# EAGLE library part PCIE-MXM3.0-* (library PCI Express)
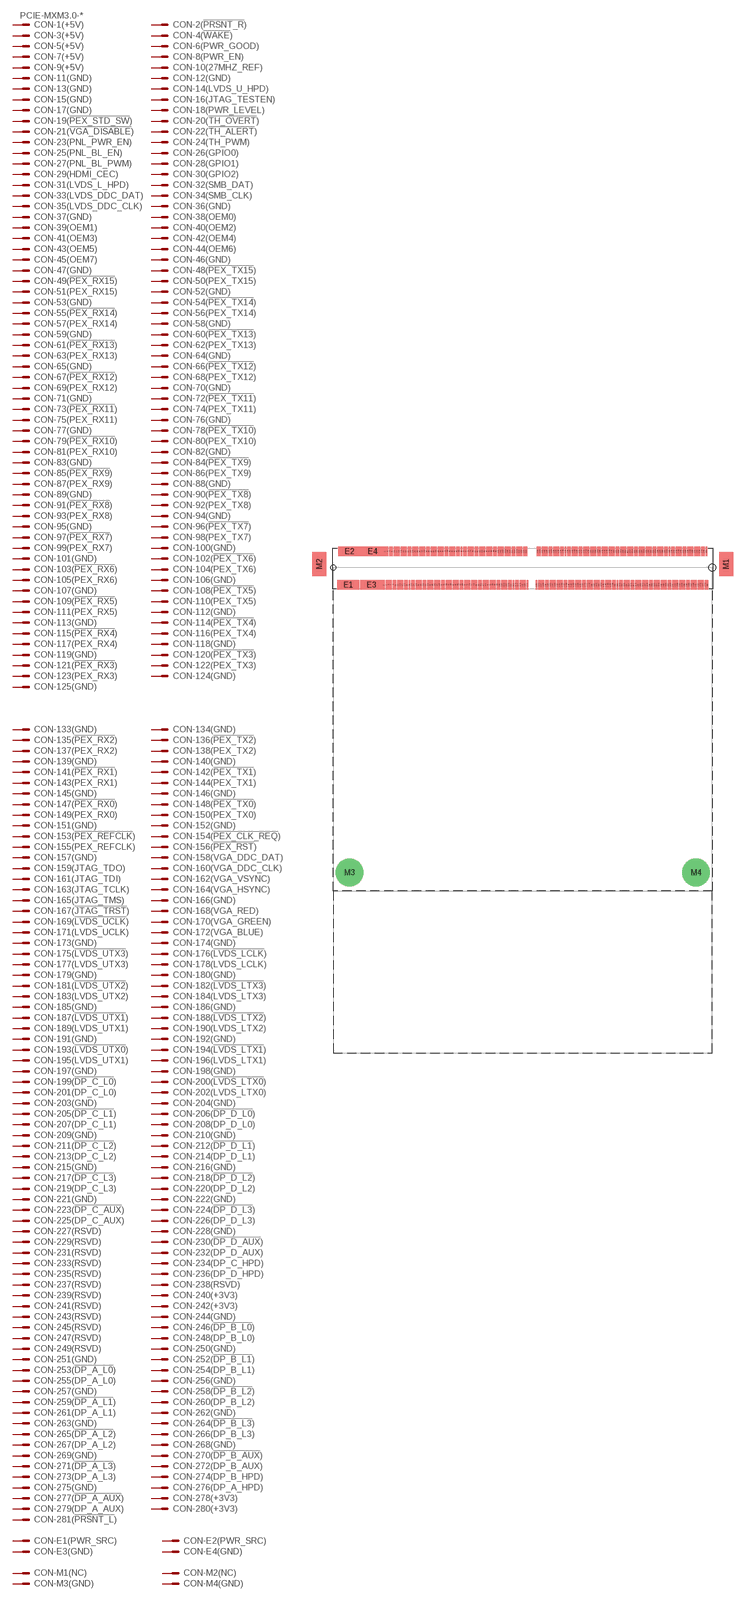
[diagram p6: symbol with the pads of PCIE-MXM3.0-SKT; footprint PCIE-MXM3.0-SKT]

Designator prefix CON; gates -1(+5V)=KV -2(!PRSNT_R!)=K -3(+5V)=K -4(!WAKE!)=K -5(+5V)=K -6(PWR_GOOD)=K -7(+5V)=K -8(PWR_EN)=K -9(+5V)=K -10(27MHZ_REF)=K -11(GND)=K -12(GND)=K -13(GND)=K -14(LVDS_U_HPD)=K -15(GND)=K -16(JTAG_TESTEN)=K -17(GND)=K -18(PWR_LEVEL)=K -19(!PEX_STD_SW!)=K -20(!TH_OVERT!)=K -21(!VGA_DISABLE!)=K -22(!TH_ALERT!)=K -23(PNL_PWR_EN)=K -24(TH_PWM)=K -25(PNL_BL_EN)=K -26(GPIO0)=K -27(PNL_BL_PWM)=K -28(GPIO1)=K -29(HDMI_CEC)=K -30(GPIO2)=K -31(LVDS_L_HPD)=K -32(SMB_DAT)=K -33(LVDS_DDC_DAT)=K -34(SMB_CLK)=K -35(LVDS_DDC_CLK)=K -36(GND)=K -37(GND)=K -38(OEM0)=K -39(OEM1)=K -40(OEM2)=K -41(OEM3)=K -42(OEM4)=K -43(OEM5)=K -44(OEM6)=K -45(OEM7)=K -46(GND)=K -47(GND)=K -48(!PEX_TX15!)=K -49(!PEX_RX15!)=K -50(PEX_TX15)=K -51(PEX_RX15)=K -52(GND)=K -53(GND)=K -54(!PEX_TX14!)=K -55(!PEX_RX14!)=K -56(PEX_TX14)=K -57(PEX_RX14)=K -58(GND)=K -59(GND)=K -60(!PEX_TX13!)=K -61(!PEX_RX13!)=K -62(PEX_TX13)=K -63(PEX_RX13)=K -64(GND)=K -65(GND)=K -66(!PEX_TX12!)=K -67(!PEX_RX12!)=K -68(PEX_TX12)=K -69(PEX_RX12)=K -70(GND)=K -71(GND)=K -72(!PEX_TX11!)=K -73(!PEX_RX11!)=K -74(PEX_TX11)=K -75(PEX_RX11)=K -76(GND)=K -77(GND)=K -78(!PEX_TX10!)=K -79(!PEX_RX10!)=K -80(PEX_TX10)=K -81(PEX_RX10)=K -82(GND)=K -83(GND)=K -84(!PEX_TX9!)=K -85(!PEX_RX9!)=K -86(PEX_TX9)=K -87(PEX_RX9)=K -88(GND)=K -89(GND)=K -90(!PEX_TX8!)=K -91(!PEX_RX8!)=K -92(PEX_TX8)=K -93(PEX_RX8)=K -94(GND)=K -95(GND)=K -96(!PEX_TX7!)=K -97(!PEX_RX7!)=K -98(PEX_TX7)=K -99(PEX_RX7)=K -100(GND)=K -101(GND)=K -102(!PEX_TX6!)=K -103(!PEX_RX6!)=K -104(PEX_TX6)=K -105(PEX_RX6)=K -106(GND)=K -107(GND)=K -108(!PEX_TX5!)=K -109(!PEX_RX5!)=K -110(PEX_TX5)=K -111(PEX_RX5)=K -112(GND)=K -113(GND)=K -114(!PEX_TX4!)=K -115(!PEX_RX4!)=K -116(PEX_TX4)=K -117(PEX_RX4)=K -118(GND)=K -119(GND)=K -120(!PEX_TX3!)=K -121(!PEX_RX3!)=K -122(PEX_TX3)=K -123(PEX_RX3)=K -124(GND)=K -125(GND)=K -133(GND)=K -134(GND)=K -135(!PEX_RX2!)=K -136(!PEX_TX2!)=K -137(PEX_RX2)=K -138(PEX_TX2)=K -139(GND)=K -140(GND)=K -141(!PEX_RX1!)=K -142(!PEX_TX1!)=K -143(PEX_RX1)=K -144(PEX_TX1)=K -145(GND)=K -146(GND)=K -147(!PEX_RX0!)=K -148(!PEX_TX0!)=K -149(PEX_RX0)=K -150(PEX_TX0)=K -151(GND)=K -152(GND)=K -153(!PEX_REFCLK!)=K -154(!PEX_CLK_REQ!)=K -155(PEX_REFCLK)=K -156(!PEX_RST!)=K -157(GND)=K -158(VGA_DDC_DAT)=K -159(JTAG_TDO)=K -160(VGA_DDC_CLK)=K -161(JTAG_TDI)=K -162(VGA_VSYNC)=K -163(JTAG_TCLK)=K -164(VGA_HSYNC)=K -165(JTAG_TMS)=K -166(GND)=K -167(!JTAG_TRST!)=K -168(VGA_RED)=K -169(!LVDS_UCLK!)=K -170(VGA_GREEN)=K -171(LVDS_UCLK)=K -172(VGA_BLUE)=K -173(GND)=K -174(GND)=K -175(!LVDS_UTX3!)=K -176(!LVDS_LCLK!)=K -177(LVDS_UTX3)=K -178(LVDS_LCLK)=K -179(GND)=K -180(GND)=K -181(!LVDS_UTX2!)=K -182(!LVDS_LTX3!)=K -183(LVDS_UTX2)=K -184(LVDS_LTX3)=K -185(GND)=K -186(GND)=K -187(!LVDS_UTX1!)=K -188(!LVDS_LTX2!)=K -189(LVDS_UTX1)=K -190(LVDS_LTX2)=K -191(GND)=K -192(GND)=K -193(!LVDS_UTX0!)=K -194(!LVDS_LTX1!)=K -195(LVDS_UTX1)=K -196(LVDS_LTX1)=K -197(GND)=K -198(GND)=K -199(!DP_C_L0!)=K -200(!LVDS_LTX0!)=K -201(DP_C_L0)=K -202(LVDS_LTX0)=K -203(GND)=K -204(GND)=K -205(!DP_C_L1!)=K -206(!DP_D_L0!)=K -207(DP_C_L1)=K -208(DP_D_L0)=K -209(GND)=K -210(GND)=K -211(!DP_C_L2!)=K -212(!DP_D_L1!)=K -213(DP_C_L2)=K -214(DP_D_L1)=K -215(GND)=K -216(GND)=K -217(!DP_C_L3!)=K -218(!DP_D_L2!)=K -219(DP_C_L3)=K -220(DP_D_L2)=K -221(GND)=K -222(GND)=K -223(!DP_C_AUX!)=K -224(!DP_D_L3!)=K -225(DP_C_AUX)=K -226(DP_D_L3)=K -227(RSVD)=K -228(GND)=K -229(RSVD)=K -230(!DP_D_AUX!)=K -231(RSVD)=K -232(DP_D_AUX)=K -233(RSVD)=K -234(DP_C_HPD)=K -235(RSVD)=K -236(DP_D_HPD)=K -237(RSVD)=K -238(RSVD)=K -239(RSVD)=K -240(+3V3)=K -241(RSVD)=K -242(+3V3)=K -243(RSVD)=K -244(GND)=K -245(RSVD)=K -246(!DP_B_L0!)=K -247(RSVD)=K -248(DP_B_L0)=K -249(RSVD)=K -250(GND)=K -251(GND)=K -252(!DP_B_L1!)=K -253(!DP_A_L0!)=K -254(DP_B_L1)=K -255(DP_A_L0)=K -256(GND)=K -257(GND)=K -258(!DP_B_L2!)=K -259(!DP_A_L1!)=K -260(DP_B_L2)=K -261(DP_A_L1)=K -262(GND)=K -263(GND)=K -264(!DP_B_L3!)=K -265(!DP_A_L2!)=K -266(DP_B_L3)=K -267(DP_A_L2)=K -268(GND)=K -269(GND)=K -270(!DP_B_AUX!)=K -271(!DP_A_L3!)=K -272(DP_B_AUX)=K -273(DP_A_L3)=K -274(DP_B_HPD)=K -275(GND)=K -276(DP_A_HPD)=K -277(!DP_A_AUX!)=K -278(+3V3)=K -279(DP_A_AUX)=K -280(+3V3)=K -281(!PRSNT_L!)=K -E1(PWR_SRC)=K -E2(PWR_SRC)=K -E3(GND)=K -E4(GND)=K -M1(NC)=K -M3(GND)=K -M4(GND)=K -M2(NC)=K

## PCIE-MXM3.0-SKT  [PCIE-MXM3.0-SKT]
1  -1(+5V):S  pas
2  -2(!PRSNT_R!):S  pas
3  -3(+5V):S  pas
4  -4(!WAKE!):S  pas
5  -5(+5V):S  pas
6  -6(PWR_GOOD):S  pas
7  -7(+5V):S  pas
8  -8(PWR_EN):S  pas
9  -9(+5V):S  pas
10  -10(27MHZ_REF):S  pas
11  -11(GND):S  pas
12  -12(GND):S  pas
13  -13(GND):S  pas
14  -14(LVDS_U_HPD):S  pas
15  -15(GND):S  pas
16  -16(JTAG_TESTEN):S  pas
17  -17(GND):S  pas
18  -18(PWR_LEVEL):S  pas
19  -19(!PEX_STD_SW!):S  pas
20  -20(!TH_OVERT!):S  pas
21  -21(!VGA_DISABLE!):S  pas
22  -22(!TH_ALERT!):S  pas
23  -23(PNL_PWR_EN):S  pas
24  -24(TH_PWM):S  pas
25  -25(PNL_BL_EN):S  pas
26  -26(GPIO0):S  pas
27  -27(PNL_BL_PWM):S  pas
28  -28(GPIO1):S  pas
29  -29(HDMI_CEC):S  pas
30  -30(GPIO2):S  pas
31  -31(LVDS_L_HPD):S  pas
32  -32(SMB_DAT):S  pas
33  -33(LVDS_DDC_DAT):S  pas
34  -34(SMB_CLK):S  pas
35  -35(LVDS_DDC_CLK):S  pas
36  -36(GND):S  pas
37  -37(GND):S  pas
38  -38(OEM0):S  pas
39  -39(OEM1):S  pas
40  -40(OEM2):S  pas
41  -41(OEM3):S  pas
42  -42(OEM4):S  pas
43  -43(OEM5):S  pas
44  -44(OEM6):S  pas
45  -45(OEM7):S  pas
46  -46(GND):S  pas
47  -47(GND):S  pas
48  -48(!PEX_TX15!):S  pas
49  -49(!PEX_RX15!):S  pas
50  -50(PEX_TX15):S  pas
51  -51(PEX_RX15):S  pas
52  -52(GND):S  pas
53  -53(GND):S  pas
54  -54(!PEX_TX14!):S  pas
55  -55(!PEX_RX14!):S  pas
56  -56(PEX_TX14):S  pas
57  -57(PEX_RX14):S  pas
58  -58(GND):S  pas
59  -59(GND):S  pas
60  -60(!PEX_TX13!):S  pas
61  -61(!PEX_RX13!):S  pas
62  -62(PEX_TX13):S  pas
63  -63(PEX_RX13):S  pas
64  -64(GND):S  pas
65  -65(GND):S  pas
66  -66(!PEX_TX12!):S  pas
67  -67(!PEX_RX12!):S  pas
68  -68(PEX_TX12):S  pas
69  -69(PEX_RX12):S  pas
70  -70(GND):S  pas
71  -71(GND):S  pas
72  -72(!PEX_TX11!):S  pas
73  -73(!PEX_RX11!):S  pas
74  -74(PEX_TX11):S  pas
75  -75(PEX_RX11):S  pas
76  -76(GND):S  pas
77  -77(GND):S  pas
78  -78(!PEX_TX10!):S  pas
79  -79(!PEX_RX10!):S  pas
80  -80(PEX_TX10):S  pas
81  -81(PEX_RX10):S  pas
82  -82(GND):S  pas
83  -83(GND):S  pas
84  -84(!PEX_TX9!):S  pas
85  -85(!PEX_RX9!):S  pas
86  -86(PEX_TX9):S  pas
87  -87(PEX_RX9):S  pas
88  -88(GND):S  pas
89  -89(GND):S  pas
90  -90(!PEX_TX8!):S  pas
91  -91(!PEX_RX8!):S  pas
92  -92(PEX_TX8):S  pas
93  -93(PEX_RX8):S  pas
94  -94(GND):S  pas
95  -95(GND):S  pas
96  -96(!PEX_TX7!):S  pas
97  -97(!PEX_RX7!):S  pas
98  -98(PEX_TX7):S  pas
99  -99(PEX_RX7):S  pas
100  -100(GND):S  pas
101  -101(GND):S  pas
102  -102(!PEX_TX6!):S  pas
103  -103(!PEX_RX6!):S  pas
104  -104(PEX_TX6):S  pas
105  -105(PEX_RX6):S  pas
106  -106(GND):S  pas
107  -107(GND):S  pas
108  -108(!PEX_TX5!):S  pas
109  -109(!PEX_RX5!):S  pas
110  -110(PEX_TX5):S  pas
111  -111(PEX_RX5):S  pas
112  -112(GND):S  pas
113  -113(GND):S  pas
114  -114(!PEX_TX4!):S  pas
115  -115(!PEX_RX4!):S  pas
116  -116(PEX_TX4):S  pas
117  -117(PEX_RX4):S  pas
118  -118(GND):S  pas
119  -119(GND):S  pas
120  -120(!PEX_TX3!):S  pas
121  -121(!PEX_RX3!):S  pas
122  -122(PEX_TX3):S  pas
123  -123(PEX_RX3):S  pas
124  -124(GND):S  pas
125  -125(GND):S  pas
133  -133(GND):S  pas
134  -134(GND):S  pas
135  -135(!PEX_RX2!):S  pas
136  -136(!PEX_TX2!):S  pas
137  -137(PEX_RX2):S  pas
138  -138(PEX_TX2):S  pas
139  -139(GND):S  pas
140  -140(GND):S  pas
141  -141(!PEX_RX1!):S  pas
142  -142(!PEX_TX1!):S  pas
143  -143(PEX_RX1):S  pas
144  -144(PEX_TX1):S  pas
145  -145(GND):S  pas
146  -146(GND):S  pas
147  -147(!PEX_RX0!):S  pas
148  -148(!PEX_TX0!):S  pas
149  -149(PEX_RX0):S  pas
150  -150(PEX_TX0):S  pas
151  -151(GND):S  pas
152  -152(GND):S  pas
153  -153(!PEX_REFCLK!):S  pas
154  -154(!PEX_CLK_REQ!):S  pas
155  -155(PEX_REFCLK):S  pas
156  -156(!PEX_RST!):S  pas
157  -157(GND):S  pas
158  -158(VGA_DDC_DAT):S  pas
159  -159(JTAG_TDO):S  pas
160  -160(VGA_DDC_CLK):S  pas
161  -161(JTAG_TDI):S  pas
162  -162(VGA_VSYNC):S  pas
163  -163(JTAG_TCLK):S  pas
164  -164(VGA_HSYNC):S  pas
165  -165(JTAG_TMS):S  pas
166  -166(GND):S  pas
167  -167(!JTAG_TRST!):S  pas
168  -168(VGA_RED):S  pas
169  -169(!LVDS_UCLK!):S  pas
170  -170(VGA_GREEN):S  pas
171  -171(LVDS_UCLK):S  pas
172  -172(VGA_BLUE):S  pas
173  -173(GND):S  pas
174  -174(GND):S  pas
175  -175(!LVDS_UTX3!):S  pas
176  -176(!LVDS_LCLK!):S  pas
177  -177(LVDS_UTX3):S  pas
178  -178(LVDS_LCLK):S  pas
179  -179(GND):S  pas
180  -180(GND):S  pas
181  -181(!LVDS_UTX2!):S  pas
182  -182(!LVDS_LTX3!):S  pas
183  -183(LVDS_UTX2):S  pas
184  -184(LVDS_LTX3):S  pas
185  -185(GND):S  pas
186  -186(GND):S  pas
187  -187(!LVDS_UTX1!):S  pas
188  -188(!LVDS_LTX2!):S  pas
189  -189(LVDS_UTX1):S  pas
190  -190(LVDS_LTX2):S  pas
191  -191(GND):S  pas
192  -192(GND):S  pas
193  -193(!LVDS_UTX0!):S  pas
194  -194(!LVDS_LTX1!):S  pas
195  -195(LVDS_UTX1):S  pas
196  -196(LVDS_LTX1):S  pas
197  -197(GND):S  pas
198  -198(GND):S  pas
199  -199(!DP_C_L0!):S  pas
200  -200(!LVDS_LTX0!):S  pas
201  -201(DP_C_L0):S  pas
202  -202(LVDS_LTX0):S  pas
203  -203(GND):S  pas
204  -204(GND):S  pas
205  -205(!DP_C_L1!):S  pas
206  -206(!DP_D_L0!):S  pas
207  -207(DP_C_L1):S  pas
208  -208(DP_D_L0):S  pas
209  -209(GND):S  pas
210  -210(GND):S  pas
211  -211(!DP_C_L2!):S  pas
212  -212(!DP_D_L1!):S  pas
213  -213(DP_C_L2):S  pas
214  -214(DP_D_L1):S  pas
215  -215(GND):S  pas
216  -216(GND):S  pas
217  -217(!DP_C_L3!):S  pas
218  -218(!DP_D_L2!):S  pas
219  -219(DP_C_L3):S  pas
220  -220(DP_D_L2):S  pas
221  -221(GND):S  pas
222  -222(GND):S  pas
223  -223(!DP_C_AUX!):S  pas
224  -224(!DP_D_L3!):S  pas
225  -225(DP_C_AUX):S  pas
226  -226(DP_D_L3):S  pas
227  -227(RSVD):S  pas
228  -228(GND):S  pas
229  -229(RSVD):S  pas
230  -230(!DP_D_AUX!):S  pas
231  -231(RSVD):S  pas
232  -232(DP_D_AUX):S  pas
233  -233(RSVD):S  pas
234  -234(DP_C_HPD):S  pas
235  -235(RSVD):S  pas
236  -236(DP_D_HPD):S  pas
237  -237(RSVD):S  pas
238  -238(RSVD):S  pas
239  -239(RSVD):S  pas
240  -240(+3V3):S  pas
241  -241(RSVD):S  pas
242  -242(+3V3):S  pas
243  -243(RSVD):S  pas
244  -244(GND):S  pas
245  -245(RSVD):S  pas
246  -246(!DP_B_L0!):S  pas
247  -247(RSVD):S  pas
248  -248(DP_B_L0):S  pas
249  -249(RSVD):S  pas
250  -250(GND):S  pas
251  -251(GND):S  pas
252  -252(!DP_B_L1!):S  pas
253  -253(!DP_A_L0!):S  pas
254  -254(DP_B_L1):S  pas
255  -255(DP_A_L0):S  pas
256  -256(GND):S  pas
257  -257(GND):S  pas
258  -258(!DP_B_L2!):S  pas
259  -259(!DP_A_L1!):S  pas
260  -260(DP_B_L2):S  pas
261  -261(DP_A_L1):S  pas
262  -262(GND):S  pas
263  -263(GND):S  pas
264  -264(!DP_B_L3!):S  pas
265  -265(!DP_A_L2!):S  pas
266  -266(DP_B_L3):S  pas
267  -267(DP_A_L2):S  pas
268  -268(GND):S  pas
269  -269(GND):S  pas
270  -270(!DP_B_AUX!):S  pas
271  -271(!DP_A_L3!):S  pas
272  -272(DP_B_AUX):S  pas
273  -273(DP_A_L3):S  pas
274  -274(DP_B_HPD):S  pas
275  -275(GND):S  pas
276  -276(DP_A_HPD):S  pas
277  -277(!DP_A_AUX!):S  pas
278  -278(+3V3):S  pas
279  -279(DP_A_AUX):S  pas
280  -280(+3V3):S  pas
281  -281(!PRSNT_L!):S  pas
E1  -E1(PWR_SRC):S  pas
E2  -E2(PWR_SRC):S  pas
E3  -E3(GND):S  pas
E4  -E4(GND):S  pas
M1  -M1(NC):S  pas
M2  -M2(NC):S  pas
M3  -M3(GND):S  pas
M4  -M4(GND):S  pas

## Footprint PCIE-MXM3.0-SKT (pad centres in mm)
Amphenol 10151114
smd 0.35 x 2: 1 -32,-3.75; 2 -31.75,3.5; 3 -31.5,-3.75; 4 -31.25,3.5; 5 -31,-3.75; 6 -30.75,3.5; 7 -30.5,-3.75; 8 -30.25,3.5; 9 -30,-3.75; 10 -29.75,3.5; 11 -29.5,-3.75; 12 -29.25,3.5; 13 -29,-3.75; 14 -28.75,3.5; 15 -28.5,-3.75; 16 -28.25,3.5; 17 -28,-3.75; 18 -27.75,3.5; 19 -27.5,-3.75; 20 -27.25,3.5; 21 -27,-3.75; 22 -26.75,3.5; 23 -26.5,-3.75; 24 -26.25,3.5; 25 -26,-3.75; 26 -25.75,3.5; 27 -25.5,-3.75; 28 -25.25,3.5; 29 -25,-3.75; 30 -24.75,3.5; 31 -24.5,-3.75; 32 -24.25,3.5; 33 -24,-3.75; 34 -23.75,3.5; 35 -23.5,-3.75; 36 -23.25,3.5; 37 -23,-3.75; 38 -22.75,3.5; 39 -22.5,-3.75; 40 -22.25,3.5; 41 -22,-3.75; 42 -21.75,3.5; 43 -21.5,-3.75; 44 -21.25,3.5; 45 -21,-3.75; 46 -20.75,3.5; 47 -20.5,-3.75; 48 -20.25,3.5; 49 -20,-3.75; 50 -19.75,3.5; 51 -19.5,-3.75; 52 -19.25,3.5; 53 -19,-3.75; 54 -18.75,3.5; 55 -18.5,-3.75; 56 -18.25,3.5; 57 -18,-3.75; 58 -17.75,3.5; 59 -17.5,-3.75; 60 -17.25,3.5; 61 -17,-3.75; 62 -16.75,3.5; 63 -16.5,-3.75; 64 -16.25,3.5; 65 -16,-3.75; 66 -15.75,3.5; 67 -15.5,-3.75; 68 -15.25,3.5; 69 -15,-3.75; 70 -14.75,3.5; 71 -14.5,-3.75; 72 -14.25,3.5; 73 -14,-3.75; 74 -13.75,3.5; 75 -13.5,-3.75; 76 -13.25,3.5; 77 -13,-3.75; 78 -12.75,3.5; 79 -12.5,-3.75; 80 -12.25,3.5; 81 -12,-3.75; 82 -11.75,3.5; 83 -11.5,-3.75; 84 -11.25,3.5; 85 -11,-3.75; 86 -10.75,3.5; 87 -10.5,-3.75; 88 -10.25,3.5; 89 -10,-3.75; 90 -9.75,3.5; 91 -9.5,-3.75; 92 -9.25,3.5; 93 -9,-3.75; 94 -8.75,3.5; 95 -8.5,-3.75; 96 -8.25,3.5; 97 -8,-3.75; 98 -7.75,3.5; 99 -7.5,-3.75; 100 -7.25,3.5; 101 -7,-3.75; 102 -6.75,3.5; 103 -6.5,-3.75; 104 -6.25,3.5; 105 -6,-3.75; 106 -5.75,3.5; 107 -5.5,-3.75; 108 -5.25,3.5; 109 -5,-3.75; 110 -4.75,3.5; 111 -4.5,-3.75; 112 -4.25,3.5; 113 -4,-3.75; 114 -3.75,3.5; 115 -3.5,-3.75; 116 -3.25,3.5; 117 -3,-3.75; 118 -2.75,3.5; 119 -2.5,-3.75; 120 -2.25,3.5; 121 -2,-3.75; 122 -1.75,3.5; 123 -1.5,-3.75; 124 -1.25,3.5; 125 -1,-3.75; 133 1,-3.75; 134 1.25,3.5; 135 1.5,-3.75; 136 1.75,3.5; 137 2,-3.75; 138 2.25,3.5; 139 2.5,-3.75; 140 2.75,3.5; 141 3,-3.75; 142 3.25,3.5; 143 3.5,-3.75; 144 3.75,3.5; 145 4,-3.75; 146 4.25,3.5; 147 4.5,-3.75; 148 4.75,3.5; 149 5,-3.75; 150 5.25,3.5; 151 5.5,-3.75; 152 5.75,3.5; 153 6,-3.75; 154 6.25,3.5; 155 6.5,-3.75; 156 6.75,3.5; 157 7,-3.75; 158 7.25,3.5; 159 7.5,-3.75; 160 7.75,3.5; 161 8,-3.75; 162 8.25,3.5; 163 8.5,-3.75; 164 8.75,3.5; 165 9,-3.75; 166 9.25,3.5; 167 9.5,-3.75; 168 9.75,3.5; 169 10,-3.75; 170 10.25,3.5; 171 10.5,-3.75; 172 10.75,3.5; 173 11,-3.75; 174 11.25,3.5; 175 11.5,-3.75; 176 11.75,3.5; 177 12,-3.75; 178 12.25,3.5; 179 12.5,-3.75; 180 12.75,3.5; 181 13,-3.75; 182 13.25,3.5; 183 13.5,-3.75; 184 13.75,3.5; 185 14,-3.75; 186 14.25,3.5; 187 14.5,-3.75; 188 14.75,3.5; 189 15,-3.75; 190 15.25,3.5; 191 15.5,-3.75; 192 15.75,3.5; 193 16,-3.75; 194 16.25,3.5; 195 16.5,-3.75; 196 16.75,3.5; 197 17,-3.75; 198 17.25,3.5; 199 17.5,-3.75; 200 17.75,3.5; 201 18,-3.75; 202 18.25,3.5; 203 18.5,-3.75; 204 18.75,3.5; 205 19,-3.75; 206 19.25,3.5; 207 19.5,-3.75; 208 19.75,3.5; 209 20,-3.75; 210 20.25,3.5; 211 20.5,-3.75; 212 20.75,3.5; 213 21,-3.75; 214 21.25,3.5; 215 21.5,-3.75; 216 21.75,3.5; 217 22,-3.75; 218 22.25,3.5; 219 22.5,-3.75; 220 22.75,3.5; 221 23,-3.75; 222 23.25,3.5; 223 23.5,-3.75; 224 23.75,3.5; 225 24,-3.75; 226 24.25,3.5; 227 24.5,-3.75; 228 24.75,3.5; 229 25,-3.75; 230 25.25,3.5; 231 25.5,-3.75; 232 25.75,3.5; 233 26,-3.75; 234 26.25,3.5; 235 26.5,-3.75; 236 26.75,3.5; 237 27,-3.75; 238 27.25,3.5; 239 27.5,-3.75; 240 27.75,3.5; 241 28,-3.75; 242 28.25,3.5; 243 28.5,-3.75; 244 28.75,3.5; 245 29,-3.75; 246 29.25,3.5; 247 29.5,-3.75; 248 29.75,3.5; 249 30,-3.75; 250 30.25,3.5; 251 30.5,-3.75; 252 30.75,3.5; 253 31,-3.75; 254 31.25,3.5; 255 31.5,-3.75; 256 31.75,3.5; 257 32,-3.75; 258 32.25,3.5; 259 32.5,-3.75; 260 32.75,3.5; 261 33,-3.75; 262 33.25,3.5; 263 33.5,-3.75; 264 33.75,3.5; 265 34,-3.75; 266 34.25,3.5; 267 34.5,-3.75; 268 34.75,3.5; 269 35,-3.75; 270 35.25,3.5; 271 35.5,-3.75; 272 35.75,3.5; 273 36,-3.75; 274 36.25,3.5; 275 36.5,-3.75; 276 36.75,3.5; 277 37,-3.75; 278 37.25,3.5; 279 37.5,-3.75; 280 37.75,3.5; 281 38,-3.75
smd 4.82 x 2: E1 -39.75,-3.75; E2 -39.5,3.5; E3 -34.75,-3.75; E4 -34.5,3.5
smd 3 x 5.12: M1 42,0.75; M2 -46,0.75
drill 3.2 pad 6: M3 -39.5,-66; M4 35.5,-66
hole 1.6 at 39,0
hole 1.1 at -43,0